# EAGLE library part SO16_FOOTPRINT (library PACKAGES FOR TEST BOARDS)
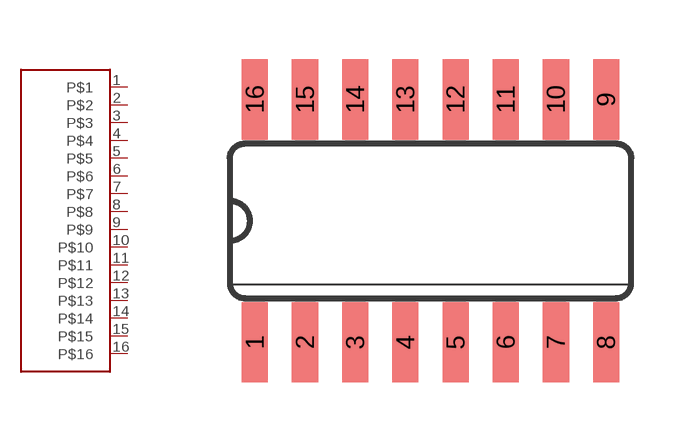
[diagram p0: symbol with the pads of SO16; footprint SO16]

Designator prefix -

## SO16_FOOTPRINT  [SO16]
1  P$1  out
2  P$2  out
3  P$3  out
4  P$4  out
5  P$5  out
6  P$6  out
7  P$7  out
8  P$8  out
9  P$9  out
10  P$10  out
11  P$11  out
12  P$12  out
13  P$13  out
14  P$14  out
15  P$15  out
16  P$16  out

## Footprint SO16 (pad centres in mm)
Small Outline package 150 mil
smd 0.66 x 2.032: 1 -4.445,-3.073; 2 -3.175,-3.073; 3 -1.905,-3.073; 4 -0.635,-3.073; 5 0.635,-3.073; 6 1.905,-3.073; 7 3.175,-3.073; 8 4.445,-3.073; 9 4.445,3.073; 10 3.175,3.073; 11 1.905,3.073; 12 0.635,3.073; 13 -0.635,3.073; 14 -1.905,3.073; 15 -3.175,3.073; 16 -4.445,3.073